# EAGLE library part AM26LV32EIPWR (library sbrio_backplane)
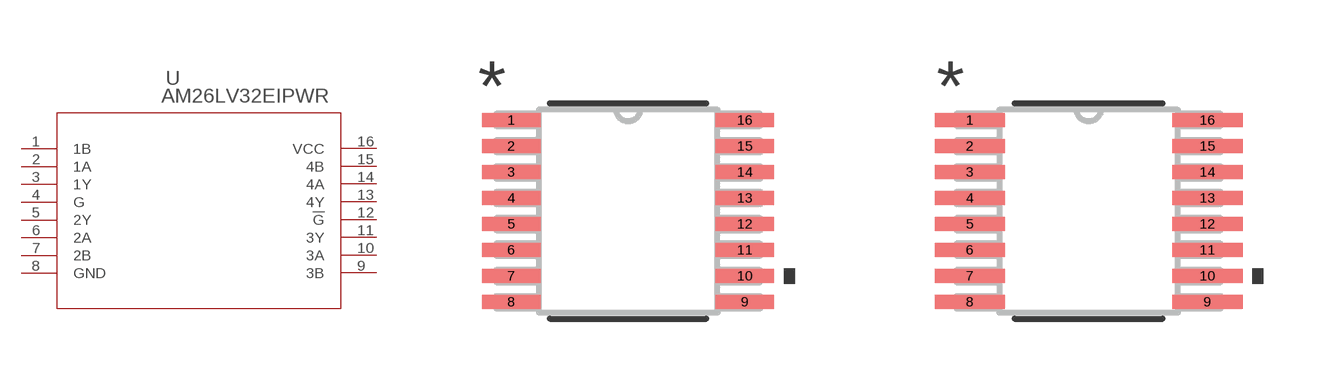
[diagram p2: symbol with the pads of PW16; footprints PW16, PW16-M]

Designator prefix U

## AM26LV32EIPWR (COPYRIGHT: Copyright (C) 2022 Ultra Librarian. All rights reserved.; DIGI-KEY_PART_NUMBER_1: 296-24696-1-ND; DIGI-KEY_PART_NUMBER_2: 296-24696-2-ND; DIGI-KEY_PART_NUMBER_3: 296-24696-6-ND; MANUFACTURER_PART_NUMBER: AM26LV32EIPWR; MFR_NAME: Texas Instruments)  [PW16]
1  1B  in
2  1A  in
3  1Y  out
4  G  pas
5  2Y  out
6  2A  in
7  2B  in
8  GND  pwr
9  3B  in
10  3A  in
11  3Y  out
12  !G  pas
13  4Y  out
14  4A  in
15  4B  in
16  VCC  pwr

## AM26LV32EIPWRPW16-M (COPYRIGHT: Copyright (C) 2022 Ultra Librarian. All rights reserved.; DIGI-KEY_PART_NUMBER_1: 296-24696-1-ND; DIGI-KEY_PART_NUMBER_2: 296-24696-2-ND; DIGI-KEY_PART_NUMBER_3: 296-24696-6-ND; MANUFACTURER_PART_NUMBER: AM26LV32EIPWR; MFR_NAME: Texas Instruments)  [PW16-M]
Pads as for PW16

## AM26LV32EIPWRPW16-L (COPYRIGHT: Copyright (C) 2022 Ultra Librarian. All rights reserved.; DIGI-KEY_PART_NUMBER_1: 296-24696-1-ND; DIGI-KEY_PART_NUMBER_2: 296-24696-2-ND; DIGI-KEY_PART_NUMBER_3: 296-24696-6-ND; MANUFACTURER_PART_NUMBER: AM26LV32EIPWR; MFR_NAME: Texas Instruments)  [PW16-L]
Pads as for PW16

## Footprint PW16 (pad centres in mm)
smd 1.462 x 0.355: 1 -2.921,2.275; 2 -2.921,1.625; 3 -2.921,0.975; 4 -2.921,0.325; 5 -2.921,-0.325; 6 -2.921,-0.975; 7 -2.921,-1.625; 8 -2.921,-2.275; 9 2.921,-2.275; 10 2.921,-1.625; 11 2.921,-0.975; 12 2.921,-0.325; 13 2.921,0.325; 14 2.921,0.975; 15 2.921,1.625; 16 2.921,2.275

## Footprint PW16-M (pad centres in mm)
smd 1.762 x 0.355: 1 -2.971,2.275; 2 -2.971,1.625; 3 -2.971,0.975; 4 -2.971,0.325; 5 -2.971,-0.325; 6 -2.971,-0.975; 7 -2.971,-1.625; 8 -2.971,-2.275; 9 2.971,-2.275; 10 2.971,-1.625; 11 2.971,-0.975; 12 2.971,-0.325; 13 2.971,0.325; 14 2.971,0.975; 15 2.971,1.625; 16 2.971,2.275

## Footprint PW16-L (pad centres in mm)
smd 1.162 x 0.305: 1 -2.871,2.275; 2 -2.871,1.625; 3 -2.871,0.975; 4 -2.871,0.325; 5 -2.871,-0.325; 6 -2.871,-0.975; 7 -2.871,-1.625; 8 -2.871,-2.275; 9 2.871,-2.275; 10 2.871,-1.625; 11 2.871,-0.975; 12 2.871,-0.325; 13 2.871,0.325; 14 2.871,0.975; 15 2.871,1.625; 16 2.871,2.275